# Altium integrated library Analog Devices Data Converters Digital-to-Analog Converters.IntLib: 2231 symbols (part 124 of 181)
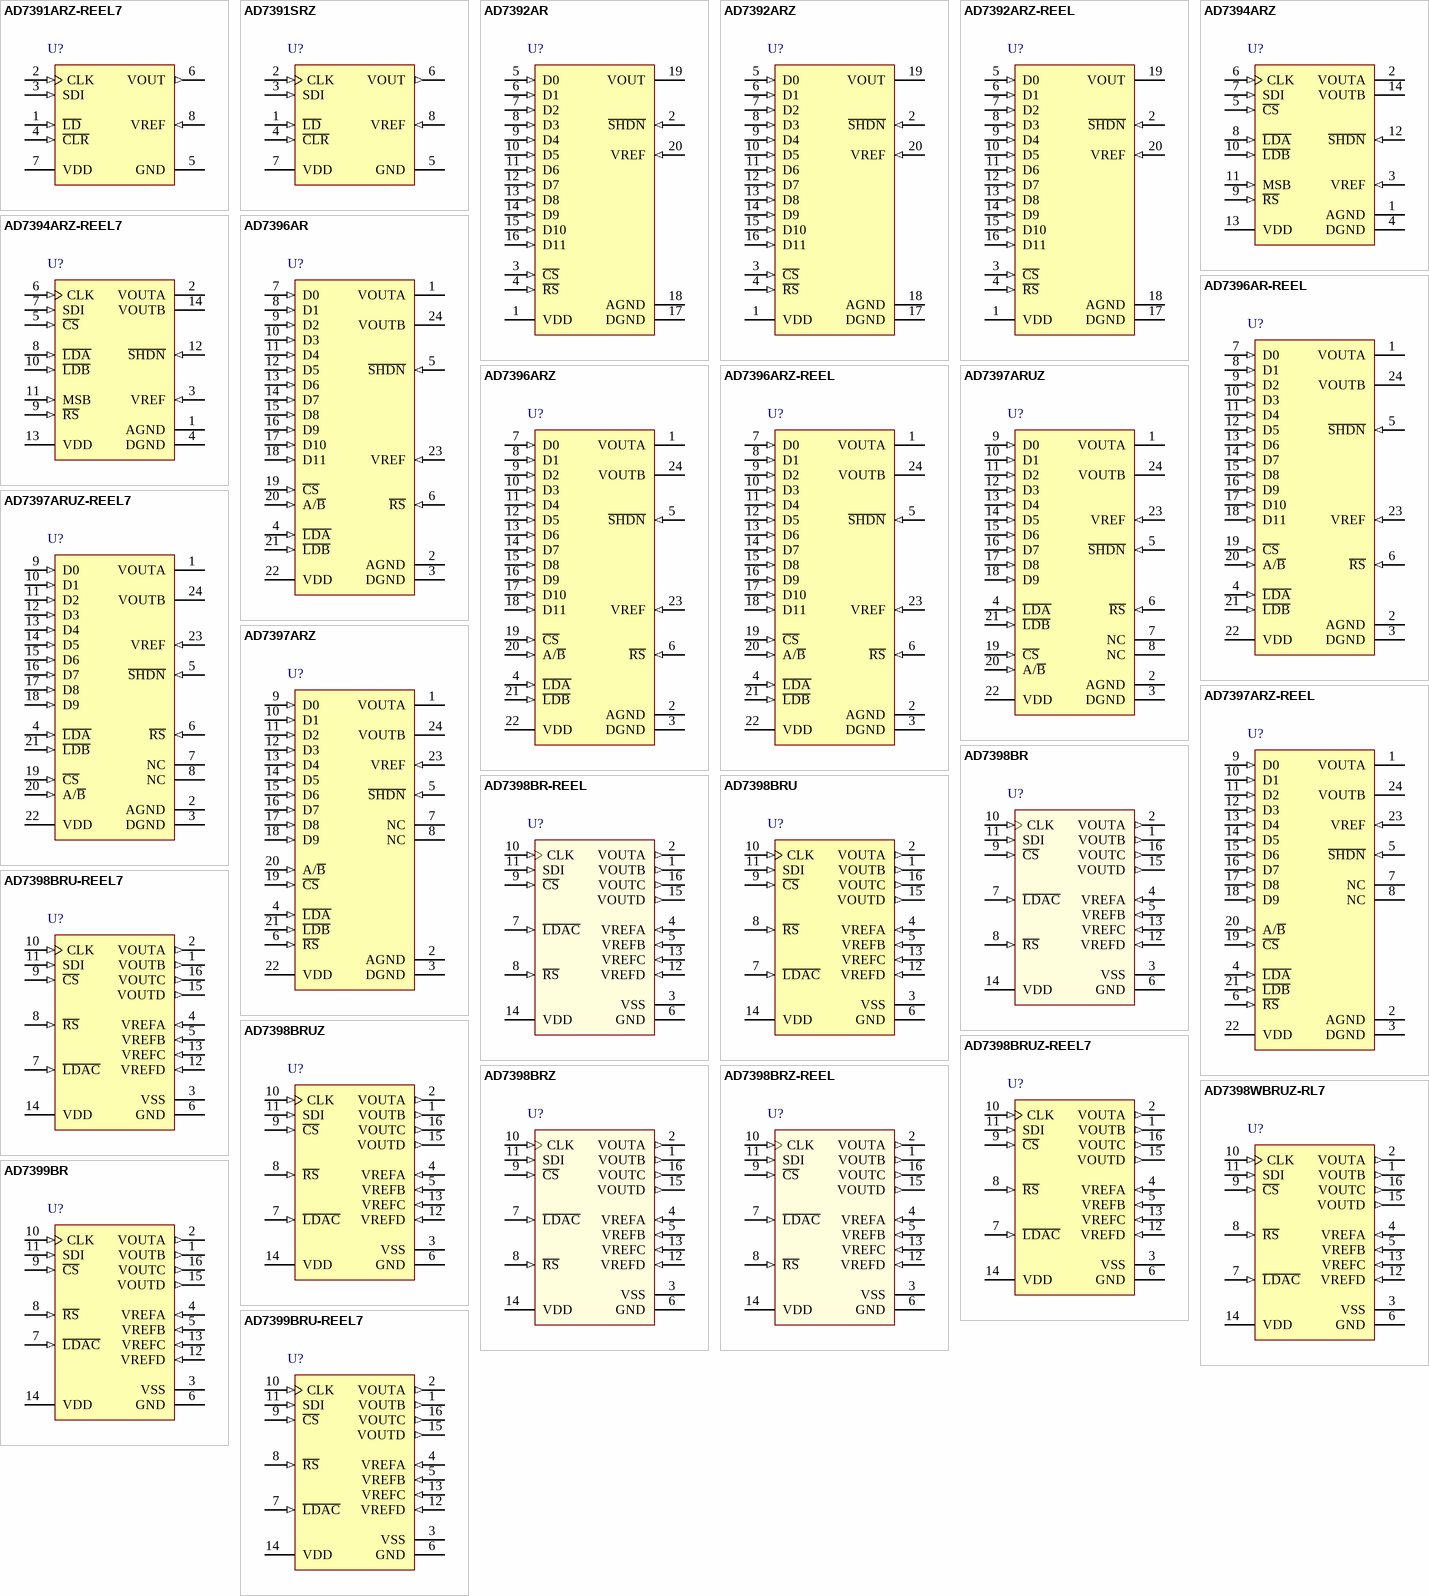
[diagram p237: symbols AD7391ARZ-REEL7 to AD7399BRU-REEL7]

## AD7399BR
designator U?
Quad 10-Bit Digital-to-Analog Converter with Serial Interface, -40 to +125 degC, RW-16, Tube; Generic Part Number: AD7399; Manufacturer: Analog Devices; PartNumber: AD7399BR; # DAC Outputs: 4; Max V+: 5.5V; Op Pwr Diss: 27mW; Resolution (Bits): 10; Settling Time: 6µs; Single Supply: Yes; DatasheetVersion: Rev.C; PackageVersion: 032707-B; PackageReference: RW-16; PackageDescription: 16-Lead Standard Small Outline Package [SOIC_W]; Supplier 1: Digi-Key; Supplier Part Number 1: AD7399BR-ND; Supplier 2: Mouser; Supplier Part Number 2: 584-AD7399BR; Packing: Tube; RoHS: N; Mounting Technology: Surface Mount; Code_JEDEC: MS-013-AA; Code_IPC: SOIC127P1030-16; ComponentLink1Description: Manufacturer URL; ComponentLink1URL: http://www.analog.com/en/index.html; ComponentLink2Description: Datasheet; ComponentLink2URL: http://www.analog.com/static/imported-files/data_sheets/AD7398_7399.pdf; ComponentLink3Description: Package Specification; ComponentLink3URL: http://www.analog.com/static/imported-files/packages/PKG_PDF/SOIC_WIDE%20%28RW%29/RW_16.pdf; ComponentLink4Description: Product URL; ComponentLink4URL: http://www.analog.com/en/digital-to-analog-converters/da-converters/ad7399/products/product.html
footprint RW-16_N (SOIC, 16-Leads, Body 10.3x7.5mm, Pitch 1.27mm, IPC Medium Density)
footprint RW-16_L (SOIC, 16-Leads, Body 10.3x7.5mm, Pitch 1.27mm, IPC High Density)
footprint RW-16_M (SOIC, 16-Leads, Body 10.3x7.5mm, Pitch 1.27mm, IPC Low Density)
pins: 1 VOUTB (out) "DAC B Voltage Output.", 2 VOUTA (out) "DAC A Voltage Output.", 3 VSS (power) "Negative Power Supply Input. Specified range of operation 0 V to -5.5 V.", 4 VREFA (in) "DAC A Reference Voltage Input Terminal. Establishes DAC A full-scale output voltage. Pin can be tied to VDD pin or VSS pin.", 5 VREFB (in) "DAC B Reference Voltage Input Terminal. Establishes DAC B full-scale output voltage. Pin can be tied to VDD pin or VSS pin.", 6 GND (power) "Ground Pin.", 7 ~{LDAC} (in) "Load DAC Register Strobe. Level sensitive active low. Transfers all input register data to DAC registers.Asynchronous active low input. See Table 5 for operation.", 8 ~{RS} (in) "Resets Input and DAC Registers to All Zero Codes. Shift register contents unchanged.", 9 ~{CS} (in) "Chip Select. Active low input. Disables shift register loading when high. Transfers serial register data to the input register when C\S\ returns high. Does not effect L\D\A\C\ operation.", 10 CLK (in) "Schmitt Triggered Clock Input. Positive edge clocks data into shift register.", 11 SDI (in) "Serial Data Input. Input data loads directly into the shift register.", 12 VREFD (in) "DAC D Reference Voltage Input Terminal. Establishes DAC D full-scale output voltage. Pin can be tied to VDD pin or VSS pin.", 13 VREFC (in) "DAC C Reference Voltage Input Terminal. Establishes DAC C full-scale output voltage. Pin can be tied to VDD pin or VSS pin.", 14 VDD (power) "Positive Power Supply Input. Specified range of operation 3 V to 5 V +/- 10%.", 15 VOUTD (out) "DAC D Voltage Output.", 16 VOUTC (out) "DAC C Voltage Output."

## AD7399BRU-REEL7
designator U?
Quad 10-Bit Digital-to-Analog Converter with Serial Interface, -40 to +125 degC, RU-16, Reel; Generic Part Number: AD7399; Manufacturer: Analog Devices; PartNumber: AD7399BRU-REEL7; # DAC Outputs: 4; Max V+: 5.5V; Op Pwr Diss: 27mW; Resolution (Bits): 10; Settling Time: 6µs; Single Supply: Yes; DatasheetVersion: Rev.C; PackageVersion: Nov-2002; PackageReference: RU-16; PackageDescription: 16-Lead Thin Shrink Small Outline Package [TSSOP]; Supplier 1: Digi-Key; Supplier Part Number 1: AD7399BRU-REEL7TR-ND; Supplier 2: Digi-Key; Supplier Part Number 2: AD7399BRU-REEL7CT-ND; Supplier 3: Digi-Key; Supplier Part Number 3: AD7399BRU-REEL7DKR-ND; Supplier 4: Mouser; Supplier Part Number 4: 584-AD7399BRU-R7; Packing: Reel; RoHS: N; Mounting Technology: Surface Mount; Code_JEDEC: MO-153-AB; ComponentLink1Description: Manufacturer URL; ComponentLink1URL: http://www.analog.com/en/index.html; ComponentLink2Description: Datasheet; ComponentLink2URL: http://www.analog.com/static/imported-files/data_sheets/AD7398_7399.pdf; ComponentLink3Description: Package Specification; ComponentLink3URL: http://www.analog.com/static/imported-files/packages/36244347913743854010197452789RU16.pdf; ComponentLink4Description: Product URL; ComponentLink4URL: http://www.analog.com/en/digital-to-analog-converters/da-converters/ad7399/products/product.html
footprint RU-16_N (TSOP, 16-Leads, Body 5x4.4mm, Pitch 0.65mm, IPC Medium Density)
footprint RU-16_L (TSOP, 16-Leads, Body 5x4.4mm, Pitch 0.65mm, IPC High Density)
footprint RU-16_M (TSOP, 16-Leads, Body 5x4.4mm, Pitch 0.65mm, IPC Low Density)
pins: 1 VOUTB (out) "DAC B Voltage Output.", 2 VOUTA (out) "DAC A Voltage Output.", 3 VSS (power) "Negative Power Supply Input. Specified range of operation 0 V to -5.5 V.", 4 VREFA (in) "DAC A Reference Voltage Input Terminal. Establishes DAC A full-scale output voltage. Pin can be tied to VDD pin or VSS pin.", 5 VREFB (in) "DAC B Reference Voltage Input Terminal. Establishes DAC B full-scale output voltage. Pin can be tied to VDD pin or VSS pin.", 6 GND (power) "Ground Pin.", 7 ~{LDAC} (in) "Load DAC Register Strobe. Level sensitive active low. Transfers all input register data to DAC registers.Asynchronous active low input. See Table 5 for operation.", 8 ~{RS} (in) "Resets Input and DAC Registers to All Zero Codes. Shift register contents unchanged.", 9 ~{CS} (in) "Chip Select. Active low input. Disables shift register loading when high. Transfers serial register data to the input register when C\S\ returns high. Does not effect L\D\A\C\ operation.", 10 CLK (in) "Schmitt Triggered Clock Input. Positive edge clocks data into shift register.", 11 SDI (in) "Serial Data Input. Input data loads directly into the shift register.", 12 VREFD (in) "DAC D Reference Voltage Input Terminal. Establishes DAC D full-scale output voltage. Pin can be tied to VDD pin or VSS pin.", 13 VREFC (in) "DAC C Reference Voltage Input Terminal. Establishes DAC C full-scale output voltage. Pin can be tied to VDD pin or VSS pin.", 14 VDD (power) "Positive Power Supply Input. Specified range of operation 3 V to 5 V +/- 10%.", 15 VOUTD (out) "DAC D Voltage Output.", 16 VOUTC (out) "DAC C Voltage Output."

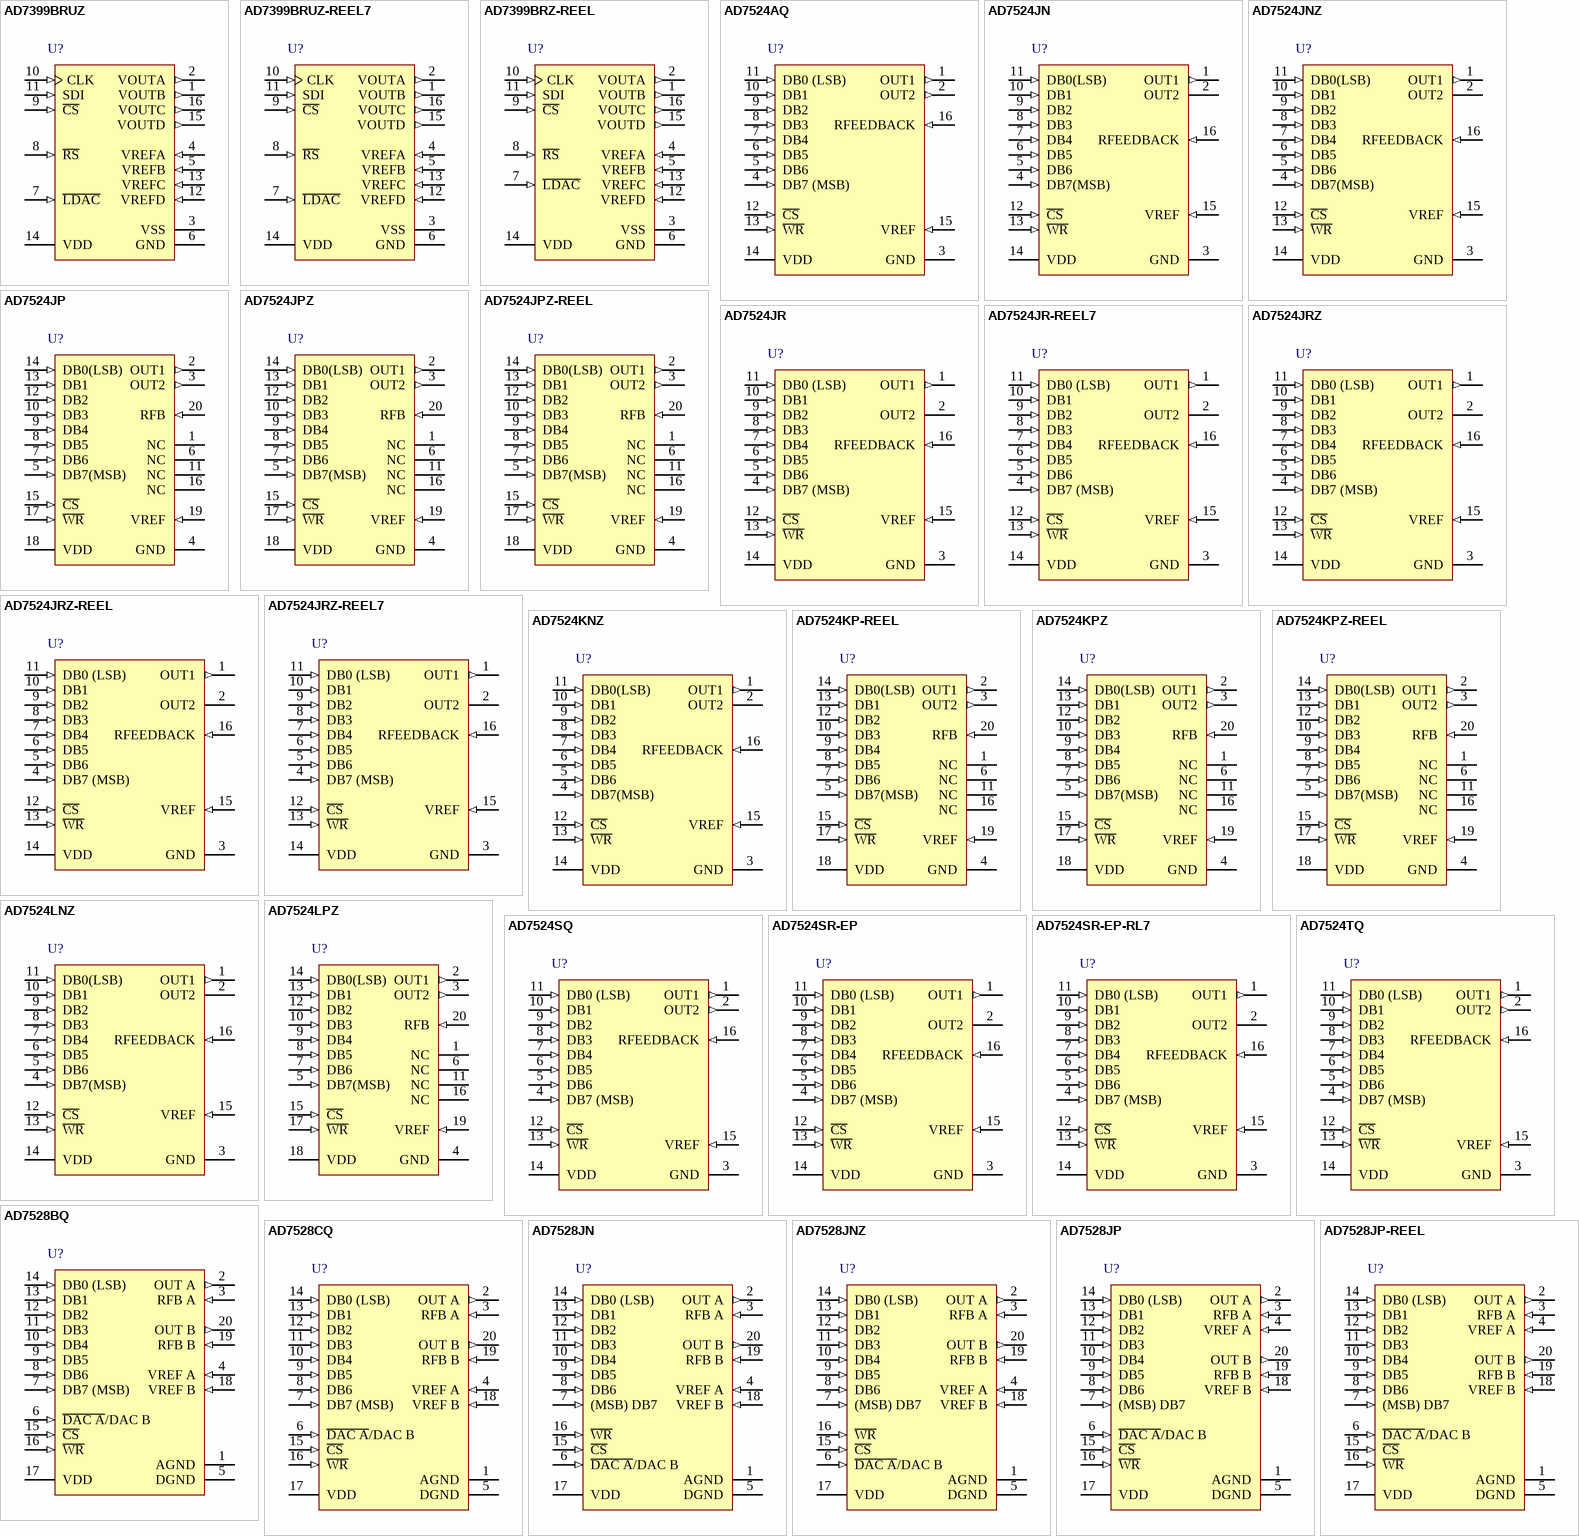
[diagram p66: symbols AD7399BRUZ to AD7528JP-REEL]

## AD7399BRUZ
designator U?
Quad 10-Bit Digital-to-Analog Converter with Serial Interface, -40 to +125 degC, RU-16, Pb-Free, Tube; Generic Part Number: AD7399; Manufacturer: Analog Devices; PartNumber: AD7399BRUZ; # DAC Outputs: 4; Max V+: 5.5V; Op Pwr Diss: 27mW; Resolution (Bits): 10; Settling Time: 6µs; Single Supply: Yes; DatasheetVersion: Rev.C; PackageVersion: Nov-2002; PackageReference: RU-16; PackageDescription: 16-Lead Thin Shrink Small Outline Package [TSSOP]; Supplier 1: Digi-Key; Supplier Part Number 1: AD7399BRUZ-ND; Supplier 2: Mouser; Supplier Part Number 2: 584-AD7399BRUZ; Packing: Tube; RoHS: Y; Mounting Technology: Surface Mount; Code_JEDEC: MO-153-AB; ComponentLink1Description: Manufacturer URL; ComponentLink1URL: http://www.analog.com/en/index.html; ComponentLink2Description: Datasheet; ComponentLink2URL: http://www.analog.com/static/imported-files/data_sheets/AD7398_7399.pdf; ComponentLink3Description: Package Specification; ComponentLink3URL: http://www.analog.com/static/imported-files/packages/36244347913743854010197452789RU16.pdf; ComponentLink4Description: Product URL; ComponentLink4URL: http://www.analog.com/en/digital-to-analog-converters/da-converters/ad7399/products/product.html
footprint RU-16_N (TSOP, 16-Leads, Body 5x4.4mm, Pitch 0.65mm, IPC Medium Density)
footprint RU-16_L (TSOP, 16-Leads, Body 5x4.4mm, Pitch 0.65mm, IPC High Density)
footprint RU-16_M (TSOP, 16-Leads, Body 5x4.4mm, Pitch 0.65mm, IPC Low Density)
pins: 1 VOUTB (out) "DAC B Voltage Output.", 2 VOUTA (out) "DAC A Voltage Output.", 3 VSS (power) "Negative Power Supply Input. Specified range of operation 0 V to -5.5 V.", 4 VREFA (in) "DAC A Reference Voltage Input Terminal. Establishes DAC A full-scale output voltage. Pin can be tied to VDD pin or VSS pin.", 5 VREFB (in) "DAC B Reference Voltage Input Terminal. Establishes DAC B full-scale output voltage. Pin can be tied to VDD pin or VSS pin.", 6 GND (power) "Ground Pin.", 7 ~{LDAC} (in) "Load DAC Register Strobe. Level sensitive active low. Transfers all input register data to DAC registers.Asynchronous active low input. See Table 5 for operation.", 8 ~{RS} (in) "Resets Input and DAC Registers to All Zero Codes. Shift register contents unchanged.", 9 ~{CS} (in) "Chip Select. Active low input. Disables shift register loading when high. Transfers serial register data to the input register when C\S\ returns high. Does not effect L\D\A\C\ operation.", 10 CLK (in) "Schmitt Triggered Clock Input. Positive edge clocks data into shift register.", 11 SDI (in) "Serial Data Input. Input data loads directly into the shift register.", 12 VREFD (in) "DAC D Reference Voltage Input Terminal. Establishes DAC D full-scale output voltage. Pin can be tied to VDD pin or VSS pin.", 13 VREFC (in) "DAC C Reference Voltage Input Terminal. Establishes DAC C full-scale output voltage. Pin can be tied to VDD pin or VSS pin.", 14 VDD (power) "Positive Power Supply Input. Specified range of operation 3 V to 5 V +/- 10%.", 15 VOUTD (out) "DAC D Voltage Output.", 16 VOUTC (out) "DAC C Voltage Output."

## AD7399BRUZ-REEL7
designator U?
Quad 10-Bit Digital-to-Analog Converter with Serial Interface, -40 to +125 degC, RU-16, Pb-Free, Reel; Generic Part Number: AD7399; Manufacturer: Analog Devices; PartNumber: AD7399BRUZ-REEL7; # DAC Outputs: 4; Max V+: 5.5V; Op Pwr Diss: 27mW; Resolution (Bits): 10; Settling Time: 6µs; Single Supply: Yes; DatasheetVersion: Rev.C; PackageVersion: Nov-2002; PackageReference: RU-16; PackageDescription: 16-Lead Thin Shrink Small Outline Package [TSSOP]; Supplier 1: Digi-Key; Supplier Part Number 1: AD7399BRUZ-REEL7-ND; Supplier 2: Mouser; Supplier Part Number 2: 584-AD7399BRUZ-R7; Packing: Reel; RoHS: Y; Mounting Technology: Surface Mount; Code_JEDEC: MO-153-AB; ComponentLink1Description: Manufacturer URL; ComponentLink1URL: http://www.analog.com/en/index.html; ComponentLink2Description: Datasheet; ComponentLink2URL: http://www.analog.com/static/imported-files/data_sheets/AD7398_7399.pdf; ComponentLink3Description: Package Specification; ComponentLink3URL: http://www.analog.com/static/imported-files/packages/36244347913743854010197452789RU16.pdf; ComponentLink4Description: Product URL; ComponentLink4URL: http://www.analog.com/en/digital-to-analog-converters/da-converters/ad7399/products/product.html
footprint RU-16_N (TSOP, 16-Leads, Body 5x4.4mm, Pitch 0.65mm, IPC Medium Density)
footprint RU-16_L (TSOP, 16-Leads, Body 5x4.4mm, Pitch 0.65mm, IPC High Density)
footprint RU-16_M (TSOP, 16-Leads, Body 5x4.4mm, Pitch 0.65mm, IPC Low Density)
pins: 1 VOUTB (out) "DAC B Voltage Output.", 2 VOUTA (out) "DAC A Voltage Output.", 3 VSS (power) "Negative Power Supply Input. Specified range of operation 0 V to -5.5 V.", 4 VREFA (in) "DAC A Reference Voltage Input Terminal. Establishes DAC A full-scale output voltage. Pin can be tied to VDD pin or VSS pin.", 5 VREFB (in) "DAC B Reference Voltage Input Terminal. Establishes DAC B full-scale output voltage. Pin can be tied to VDD pin or VSS pin.", 6 GND (power) "Ground Pin.", 7 ~{LDAC} (in) "Load DAC Register Strobe. Level sensitive active low. Transfers all input register data to DAC registers.Asynchronous active low input. See Table 5 for operation.", 8 ~{RS} (in) "Resets Input and DAC Registers to All Zero Codes. Shift register contents unchanged.", 9 ~{CS} (in) "Chip Select. Active low input. Disables shift register loading when high. Transfers serial register data to the input register when C\S\ returns high. Does not effect L\D\A\C\ operation.", 10 CLK (in) "Schmitt Triggered Clock Input. Positive edge clocks data into shift register.", 11 SDI (in) "Serial Data Input. Input data loads directly into the shift register.", 12 VREFD (in) "DAC D Reference Voltage Input Terminal. Establishes DAC D full-scale output voltage. Pin can be tied to VDD pin or VSS pin.", 13 VREFC (in) "DAC C Reference Voltage Input Terminal. Establishes DAC C full-scale output voltage. Pin can be tied to VDD pin or VSS pin.", 14 VDD (power) "Positive Power Supply Input. Specified range of operation 3 V to 5 V +/- 10%.", 15 VOUTD (out) "DAC D Voltage Output.", 16 VOUTC (out) "DAC C Voltage Output."

## AD7399BRZ-REEL
designator U?
Quad 10-Bit Digital-to-Analog Converter with Serial Interface, -40 to +125 degC, RW-16, Pb-Free, Reel; Generic Part Number: AD7399; Manufacturer: Analog Devices; PartNumber: AD7399BRZ-REEL; # DAC Outputs: 4; Max V+: 5.5V; Op Pwr Diss: 27mW; Resolution (Bits): 10; Settling Time: 6µs; Single Supply: Yes; DatasheetVersion: Rev.C; PackageVersion: 032707-B; PackageReference: RW-16; PackageDescription: 16-Lead Standard Small Outline Package [SOIC_W]; Supplier 1: Digi-Key; Supplier Part Number 1: AD7399BRZ-REEL-ND; Supplier 2: Mouser; Supplier Part Number 2: 584-AD7399BRZ-R; Packing: Reel; RoHS: Y; Mounting Technology: Surface Mount; Code_JEDEC: MS-013-AA; Code_IPC: SOIC127P1030-16; ComponentLink1Description: Manufacturer URL; ComponentLink1URL: http://www.analog.com/en/index.html; ComponentLink2Description: Datasheet; ComponentLink2URL: http://www.analog.com/static/imported-files/data_sheets/AD7398_7399.pdf; ComponentLink3Description: Package Specification; ComponentLink3URL: http://www.analog.com/static/imported-files/packages/PKG_PDF/SOIC_WIDE%20%28RW%29/RW_16.pdf; ComponentLink4Description: Product URL; ComponentLink4URL: http://www.analog.com/en/digital-to-analog-converters/da-converters/ad7399/products/product.html
footprint RW-16_N (SOIC, 16-Leads, Body 10.3x7.5mm, Pitch 1.27mm, IPC Medium Density)
footprint RW-16_L (SOIC, 16-Leads, Body 10.3x7.5mm, Pitch 1.27mm, IPC High Density)
footprint RW-16_M (SOIC, 16-Leads, Body 10.3x7.5mm, Pitch 1.27mm, IPC Low Density)
pins: 1 VOUTB (out) "DAC B Voltage Output.", 2 VOUTA (out) "DAC A Voltage Output.", 3 VSS (power) "Negative Power Supply Input. Specified range of operation 0 V to -5.5 V.", 4 VREFA (in) "DAC A Reference Voltage Input Terminal. Establishes DAC A full-scale output voltage. Pin can be tied to VDD pin or VSS pin.", 5 VREFB (in) "DAC B Reference Voltage Input Terminal. Establishes DAC B full-scale output voltage. Pin can be tied to VDD pin or VSS pin.", 6 GND (power) "Ground Pin.", 7 ~{LDAC} (in) "Load DAC Register Strobe. Level sensitive active low. Transfers all input register data to DAC registers.Asynchronous active low input. See Table 5 for operation.", 8 ~{RS} (in) "Resets Input and DAC Registers to All Zero Codes. Shift register contents unchanged.", 9 ~{CS} (in) "Chip Select. Active low input. Disables shift register loading when high. Transfers serial register data to the input register when C\S\ returns high. Does not effect L\D\A\C\ operation.", 10 CLK (in) "Schmitt Triggered Clock Input. Positive edge clocks data into shift register.", 11 SDI (in) "Serial Data Input. Input data loads directly into the shift register.", 12 VREFD (in) "DAC D Reference Voltage Input Terminal. Establishes DAC D full-scale output voltage. Pin can be tied to VDD pin or VSS pin.", 13 VREFC (in) "DAC C Reference Voltage Input Terminal. Establishes DAC C full-scale output voltage. Pin can be tied to VDD pin or VSS pin.", 14 VDD (power) "Positive Power Supply Input. Specified range of operation 3 V to 5 V +/- 10%.", 15 VOUTD (out) "DAC D Voltage Output.", 16 VOUTC (out) "DAC C Voltage Output."

## AD7524AQ
designator U?
Single 8-Bit CMOS Buffered Multiplying Digital-to-Analog Converter, -40 to +85 degC, Q-16, Tube; Generic Part Number: AD7524; Manufacturer: Analog Devices; PartNumber: AD7524AQ; # DAC Outputs: 1; Max V+: 15V; Op Pwr Diss: 30mW; Resolution (Bits): 8; Settling Time: 250ns; Single Supply: Yes; DatasheetVersion: Rev.B; PackageVersion: 1996; PackageReference: Q-16; PackageDescription: DIP, 16-Pin, Skinny Dual In-line Package, 300mil Wide, Pitch 2.54 mm; Supplier 1: Digi-Key; Supplier Part Number 1: AD7524AQ-ND; Supplier 2: Newark; Supplier Part Number 2: 05F7379; Supplier 3: Mouser; Supplier Part Number 3: 584-AD7524AQ; Packing: Tube; RoHS: N; Mounting Technology: Through Hole; ComponentLink1Description: Manufacturer URL; ComponentLink1URL: http://www.analog.com/en/index.html; ComponentLink2Description: Datasheet; ComponentLink2URL: http://www.analog.com/static/imported-files/data_sheets/AD7524.pdf; ComponentLink3Description: Package Specification; ComponentLink3URL: http://www.analog.com/static/imported-files/packages/54083157002221Q_16.pdf; ComponentLink4Description: Product URL; ComponentLink4URL: http://www.analog.com/en/digital-to-analog-converters/da-converters/ad7524/products/product.html
footprint Q-16 (DIP, 16-Leads, Row Spacing 7.62mm, Pitch 2.54mm, Body 20.07x6.73mm)
pins: 1 OUT1 (out), 2 OUT2 (out), 3 GND (power), 4 DB7 (MSB) (in), 5 DB6 (in), 6 DB5 (in), 7 DB4 (in), 8 DB3 (in), 9 DB2 (in), 10 DB1 (in), 11 DB0 (LSB) (in), 12 ~{CS} (in), 13 ~{WR} (in), 14 VDD (power), 15 VREF (in), 16 RFEEDBACK (in)

## AD7524JN
designator U?
Single 8-Bit CMOS Buffered Multiplying Digital-to-Analog Converter, 0 to +70 degC, N-16, Tube; Generic Part Number: AD7524; Manufacturer: Analog Devices; PartNumber: AD7524JN; # DAC Outputs: 1; Max V+: 15V; Op Pwr Diss: 30mW; Resolution (Bits): 8; Settling Time: 250ns; Single Supply: Yes; DatasheetVersion: Rev.B; PackageVersion: 070706-A; PackageReference: N-16; PackageDescription: 16-Lead Plastic Dual In-Line Package [PDIP] Narrow Body; Supplier 1: Digi-Key; Supplier Part Number 1: AD7524JN-ND; Supplier 2: Mouser; Supplier Part Number 2: 584-AD7524JN; Packing: Tube; RoHS: N; Mounting Technology: Through Hole; Code_JEDEC: MS-001; ComponentLink1Description: Manufacturer URL; ComponentLink1URL: http://www.analog.com/en/index.html; ComponentLink2Description: Datasheet; ComponentLink2URL: http://www.analog.com/static/imported-files/data_sheets/AD7524.pdf; ComponentLink3Description: Package Specification; ComponentLink3URL: http://www.analog.com/static/imported-files/packages/44768431550332N_16.pdf; ComponentLink4Description: Product URL; ComponentLink4URL: http://www.analog.com/en/digital-to-analog-converters/da-converters/ad7524/products/product.html
footprint N-16 (DIP, 16-Leads, Row Spacing 7.62mm, Pitch 2.54mm, Body 20.1x6.6mm)
pins: 1 OUT1 (out), 2 OUT2, 3 GND (power), 4 DB7(MSB) (in), 5 DB6 (in), 6 DB5 (in), 7 DB4 (in), 8 DB3 (in), 9 DB2 (in), 10 DB1 (in), 11 DB0(LSB) (in), 12 ~{CS} (in), 13 ~{WR} (in), 14 VDD (power), 15 VREF (in), 16 RFEEDBACK (in)

## AD7524JNZ
designator U?
Single 8-Bit CMOS Buffered Multiplying Digital-to-Analog Converter, 0 to +70 degC, N-16, Pb-Free, Tube; Generic Part Number: AD7524; Manufacturer: Analog Devices; PartNumber: AD7524JNZ; # DAC Outputs: 1; Max V+: 15V; Op Pwr Diss: 30mW; Resolution (Bits): 8; Settling Time: 250ns; Single Supply: Yes; DatasheetVersion: Rev.B; PackageVersion: 070706-A; PackageReference: N-16; PackageDescription: 16-Lead Plastic Dual In-Line Package [PDIP] Narrow Body; Supplier 1: Digi-Key; Supplier Part Number 1: AD7524JNZ-ND; Supplier 2: Farnell; Supplier Part Number 2: 9605401; Supplier 3: Newark; Supplier Part Number 3: 59K4969; Supplier 4: Mouser; Supplier Part Number 4: 584-AD7524JNZ; Packing: Tube; RoHS: Y; Mounting Technology: Through Hole; Code_JEDEC: MS-001; ComponentLink1Description: Manufacturer URL; ComponentLink1URL: http://www.analog.com/en/index.html; ComponentLink2Description: Datasheet; ComponentLink2URL: http://www.analog.com/static/imported-files/data_sheets/AD7524.pdf; ComponentLink3Description: Package Specification; ComponentLink3URL: http://www.analog.com/static/imported-files/packages/44768431550332N_16.pdf; ComponentLink4Description: Product URL; ComponentLink4URL: http://www.analog.com/en/digital-to-analog-converters/da-converters/ad7524/products/product.html
footprint N-16 (DIP, 16-Leads, Row Spacing 7.62mm, Pitch 2.54mm, Body 20.1x6.6mm)
pins: 1 OUT1 (out), 2 OUT2, 3 GND (power), 4 DB7(MSB) (in), 5 DB6 (in), 6 DB5 (in), 7 DB4 (in), 8 DB3 (in), 9 DB2 (in), 10 DB1 (in), 11 DB0(LSB) (in), 12 ~{CS} (in), 13 ~{WR} (in), 14 VDD (power), 15 VREF (in), 16 RFEEDBACK (in)

## AD7524JP
designator U?
Single 8-Bit CMOS Buffered Multiplying Digital-to-Analog Converter, 0 to +70 degC, P-20A, Tube; Generic Part Number: AD7524; Manufacturer: Analog Devices; PartNumber: AD7524JP; # DAC Outputs: 1; Max V+: 15V; Op Pwr Diss: 30mW; Resolution (Bits): 8; Settling Time: 250ns; Single Supply: Yes; DatasheetVersion: Rev.B; PackageVersion: Nov-2002; PackageReference: P-20A; PackageDescription: 20-Lead Plastic Leaded Chip Carrier [PLCC]; Supplier 1: Digi-Key; Supplier Part Number 1: AD7524JP-ND; Supplier 2: Newark; Supplier Part Number 2: 05F7382; Supplier 3: Mouser; Supplier Part Number 3: 584-AD7524JP; Packing: Tube; RoHS: N; Mounting Technology: Surface Mount; Code_JEDEC: MO-047-AA; ComponentLink1Description: Manufacturer URL; ComponentLink1URL: http://www.analog.com/en/index.html; ComponentLink2Description: Datasheet; ComponentLink2URL: http://www.analog.com/static/imported-files/data_sheets/AD7524.pdf; ComponentLink3Description: Package Specification; ComponentLink3URL: http://www.analog.com/static/imported-files/packages/3121431516544404277643669223804694P20A.pdf; ComponentLink4Description: Product URL; ComponentLink4URL: http://www.analog.com/en/digital-to-analog-converters/da-converters/ad7524/products/product.html
footprint P-20A_N (Leaded Chip Carrier, 20-Leads, Body 9x9mm, Pitch 1.27mm, IPC Medium Density)
footprint P-20A_L (Leaded Chip Carrier, 20-Leads, Body 9x9mm, Pitch 1.27mm, IPC High Density)
footprint P-20A_M (Leaded Chip Carrier, 20-Leads, Body 9x9mm, Pitch 1.27mm, IPC Low Density)
pins: 1 NC, 2 OUT1 (out), 3 OUT2 (out), 4 GND (power), 5 DB7(MSB) (in), 6 NC, 7 DB6 (in), 8 DB5 (in), 9 DB4 (in), 10 DB3 (in), 11 NC, 12 DB2 (in), 13 DB1 (in), 14 DB0(LSB) (in), 15 ~{CS} (in), 16 NC, 17 ~{WR} (in), 18 VDD (power), 19 VREF (in), 20 RFB (in)

## AD7524JPZ
designator U?
Single 8-Bit CMOS Buffered Multiplying Digital-to-Analog Converter, 0 to +70 degC, P-20A, Pb-Free, Tube; Generic Part Number: AD7524; Manufacturer: Analog Devices; PartNumber: AD7524JPZ; # DAC Outputs: 1; Max V+: 15V; Op Pwr Diss: 30mW; Resolution (Bits): 8; Settling Time: 250ns; Single Supply: Yes; DatasheetVersion: Rev.B; PackageVersion: Nov-2002; PackageReference: P-20A; PackageDescription: 20-Lead Plastic Leaded Chip Carrier [PLCC]; Packing: Tube; RoHS: Y; Mounting Technology: Surface Mount; Code_JEDEC: MO-047-AA; ComponentLink1Description: Manufacturer URL; ComponentLink1URL: http://www.analog.com/en/index.html; ComponentLink2Description: Datasheet; ComponentLink2URL: http://www.analog.com/static/imported-files/data_sheets/AD7524.pdf; ComponentLink3Description: Package Specification; ComponentLink3URL: http://www.analog.com/static/imported-files/packages/3121431516544404277643669223804694P20A.pdf; ComponentLink4Description: Product URL; ComponentLink4URL: http://www.analog.com/en/digital-to-analog-converters/da-converters/ad7524/products/product.html
footprint P-20A_N (Leaded Chip Carrier, 20-Leads, Body 9x9mm, Pitch 1.27mm, IPC Medium Density)
footprint P-20A_L (Leaded Chip Carrier, 20-Leads, Body 9x9mm, Pitch 1.27mm, IPC High Density)
footprint P-20A_M (Leaded Chip Carrier, 20-Leads, Body 9x9mm, Pitch 1.27mm, IPC Low Density)
pins: 1 NC, 2 OUT1 (out), 3 OUT2 (out), 4 GND (power), 5 DB7(MSB) (in), 6 NC, 7 DB6 (in), 8 DB5 (in), 9 DB4 (in), 10 DB3 (in), 11 NC, 12 DB2 (in), 13 DB1 (in), 14 DB0(LSB) (in), 15 ~{CS} (in), 16 NC, 17 ~{WR} (in), 18 VDD (power), 19 VREF (in), 20 RFB (in)

## AD7524JPZ-REEL
designator U?
Single 8-Bit CMOS Buffered Multiplying Digital-to-Analog Converter, 0 to +70 degC, P-20A, Pb-Free, Reel; Generic Part Number: AD7524; Manufacturer: Analog Devices; PartNumber: AD7524JPZ-REEL; # DAC Outputs: 1; Max V+: 15V; Op Pwr Diss: 30mW; Resolution (Bits): 8; Settling Time: 250ns; Single Supply: Yes; DatasheetVersion: Rev.B; PackageVersion: Nov-2002; PackageReference: P-20A; PackageDescription: 20-Lead Plastic Leaded Chip Carrier [PLCC]; Supplier 1: Mouser; Supplier Part Number 1: N/A; Packing: Reel; RoHS: Y; Mounting Technology: Surface Mount; Code_JEDEC: MO-047-AA; ComponentLink1Description: Manufacturer URL; ComponentLink1URL: http://www.analog.com/en/index.html; ComponentLink2Description: Datasheet; ComponentLink2URL: http://www.analog.com/static/imported-files/data_sheets/AD7524.pdf; ComponentLink3Description: Package Specification; ComponentLink3URL: http://www.analog.com/static/imported-files/packages/3121431516544404277643669223804694P20A.pdf; ComponentLink4Description: Product URL; ComponentLink4URL: http://www.analog.com/en/digital-to-analog-converters/da-converters/ad7524/products/product.html
footprint P-20A_N (Leaded Chip Carrier, 20-Leads, Body 9x9mm, Pitch 1.27mm, IPC Medium Density)
footprint P-20A_L (Leaded Chip Carrier, 20-Leads, Body 9x9mm, Pitch 1.27mm, IPC High Density)
footprint P-20A_M (Leaded Chip Carrier, 20-Leads, Body 9x9mm, Pitch 1.27mm, IPC Low Density)
pins: 1 NC, 2 OUT1 (out), 3 OUT2 (out), 4 GND (power), 5 DB7(MSB) (in), 6 NC, 7 DB6 (in), 8 DB5 (in), 9 DB4 (in), 10 DB3 (in), 11 NC, 12 DB2 (in), 13 DB1 (in), 14 DB0(LSB) (in), 15 ~{CS} (in), 16 NC, 17 ~{WR} (in), 18 VDD (power), 19 VREF (in), 20 RFB (in)

## AD7524JR
designator U?
Single 8-Bit CMOS Buffered Multiplying Digital-to-Analog Converter, 0 to +70 degC, R-16, Tube; Generic Part Number: AD7524; Manufacturer: Analog Devices; PartNumber: AD7524JR; # DAC Outputs: 1; Max V+: 15V; Op Pwr Diss: 30mW; Resolution (Bits): 8; Settling Time: 250ns; Single Supply: Yes; DatasheetVersion: Rev.B; PackageVersion: 060606-A; PackageReference: R-16; PackageDescription: 16-Lead Standard Small Outline Package [SOIC_N] Narrow Body; Supplier 1: Digi-Key; Supplier Part Number 1: AD7524JR-ND; Supplier 2: Mouser; Supplier Part Number 2: 584-AD7524JR; Packing: Tube; RoHS: N; Mounting Technology: Surface Mount; Code_JEDEC: MS-012-AC; ComponentLink1Description: Manufacturer URL; ComponentLink1URL: http://www.analog.com/en/index.html; ComponentLink2Description: Datasheet; ComponentLink2URL: http://www.analog.com/static/imported-files/data_sheets/AD7524.pdf; ComponentLink3Description: Package Specification; ComponentLink3URL: http://www.analog.com/static/imported-files/packages/PKG_PDF/SOIC_Narrow%20(R)/R_16.pdf; ComponentLink4Description: Product URL; ComponentLink4URL: http://www.analog.com/en/digital-to-analog-converters/da-converters/ad7524/products/product.html
footprint R-16_N (SOIC, 16-Leads, Body 9.9x3.9mm, Pitch 1.27mm, IPC Medium Density)
footprint R-16_L (SOIC, 16-Leads, Body 9.9x3.9mm, Pitch 1.27mm, IPC High Density)
footprint R-16_M (SOIC, 16-Leads, Body 9.9x3.9mm, Pitch 1.27mm, IPC Low Density)
pins: 1 OUT1 (out), 2 OUT2, 3 GND (power), 4 DB7 (MSB) (in), 5 DB6 (in), 6 DB5 (in), 7 DB4 (in), 8 DB3 (in), 9 DB2 (in), 10 DB1 (in), 11 DB0 (LSB) (in), 12 ~{CS} (in), 13 ~{WR} (in), 14 VDD (power), 15 VREF (in), 16 RFEEDBACK (in)

## AD7524JR-REEL7
designator U?
Single 8-Bit CMOS Buffered Multiplying Digital-to-Analog Converter, 0 to +70 degC, R-16, Reel; Generic Part Number: AD7524; Manufacturer: Analog Devices; PartNumber: AD7524JR-REEL7; # DAC Outputs: 1; Max V+: 15V; Op Pwr Diss: 30mW; Resolution (Bits): 8; Settling Time: 250ns; Single Supply: Yes; DatasheetVersion: Rev.B; PackageVersion: 060606-A; PackageReference: R-16; PackageDescription: 16-Lead Standard Small Outline Package [SOIC_N] Narrow Body; Supplier 1: Digi-Key; Supplier Part Number 1: AD7524JR-REEL7-ND; Supplier 2: Newark; Supplier Part Number 2: 09B5762; Supplier 3: Mouser; Supplier Part Number 3: 584-AD7524JR-R7; Packing: Reel; RoHS: N; Mounting Technology: Surface Mount; Code_JEDEC: MS-012-AC; ComponentLink1Description: Manufacturer URL; ComponentLink1URL: http://www.analog.com/en/index.html; ComponentLink2Description: Datasheet; ComponentLink2URL: http://www.analog.com/static/imported-files/data_sheets/AD7524.pdf; ComponentLink3Description: Package Specification; ComponentLink3URL: http://www.analog.com/static/imported-files/packages/PKG_PDF/SOIC_Narrow%20(R)/R_16.pdf; ComponentLink4Description: Product URL; ComponentLink4URL: http://www.analog.com/en/digital-to-analog-converters/da-converters/ad7524/products/product.html
footprint R-16_N (SOIC, 16-Leads, Body 9.9x3.9mm, Pitch 1.27mm, IPC Medium Density)
footprint R-16_L (SOIC, 16-Leads, Body 9.9x3.9mm, Pitch 1.27mm, IPC High Density)
footprint R-16_M (SOIC, 16-Leads, Body 9.9x3.9mm, Pitch 1.27mm, IPC Low Density)
pins: 1 OUT1 (out), 2 OUT2, 3 GND (power), 4 DB7 (MSB) (in), 5 DB6 (in), 6 DB5 (in), 7 DB4 (in), 8 DB3 (in), 9 DB2 (in), 10 DB1 (in), 11 DB0 (LSB) (in), 12 ~{CS} (in), 13 ~{WR} (in), 14 VDD (power), 15 VREF (in), 16 RFEEDBACK (in)

## AD7524JRZ
designator U?
Single 8-Bit CMOS Buffered Multiplying Digital-to-Analog Converter, 0 to +70 degC, R-16, Pb-Free, Tube; Generic Part Number: AD7524; Manufacturer: Analog Devices; PartNumber: AD7524JRZ; # DAC Outputs: 1; Max V+: 15V; Op Pwr Diss: 30mW; Resolution (Bits): 8; Settling Time: 250ns; Single Supply: Yes; DatasheetVersion: Rev.B; PackageVersion: 060606-A; PackageReference: R-16; PackageDescription: 16-Lead Standard Small Outline Package [SOIC_N] Narrow Body; Supplier 1: Digi-Key; Supplier Part Number 1: AD7524JRZ-ND; Supplier 2: Farnell; Supplier Part Number 2: 2305683; Supplier 3: Newark; Supplier Part Number 3: 84W7428; Supplier 4: Newark; Supplier Part Number 4: 59K4970; Supplier 5: Mouser; Supplier Part Number 5: 584-AD7524JRZ; Packing: Tube; RoHS: Y; Mounting Technology: Surface Mount; Code_JEDEC: MS-012-AC; ComponentLink1Description: Manufacturer URL; ComponentLink1URL: http://www.analog.com/en/index.html; ComponentLink2Description: Datasheet; ComponentLink2URL: http://www.analog.com/static/imported-files/data_sheets/AD7524.pdf; ComponentLink3Description: Package Specification; ComponentLink3URL: http://www.analog.com/static/imported-files/packages/PKG_PDF/SOIC_Narrow%20(R)/R_16.pdf; ComponentLink4Description: Product URL; ComponentLink4URL: http://www.analog.com/en/digital-to-analog-converters/da-converters/ad7524/products/product.html
footprint R-16_N (SOIC, 16-Leads, Body 9.9x3.9mm, Pitch 1.27mm, IPC Medium Density)
footprint R-16_L (SOIC, 16-Leads, Body 9.9x3.9mm, Pitch 1.27mm, IPC High Density)
footprint R-16_M (SOIC, 16-Leads, Body 9.9x3.9mm, Pitch 1.27mm, IPC Low Density)
pins: 1 OUT1 (out), 2 OUT2, 3 GND (power), 4 DB7 (MSB) (in), 5 DB6 (in), 6 DB5 (in), 7 DB4 (in), 8 DB3 (in), 9 DB2 (in), 10 DB1 (in), 11 DB0 (LSB) (in), 12 ~{CS} (in), 13 ~{WR} (in), 14 VDD (power), 15 VREF (in), 16 RFEEDBACK (in)

## AD7524JRZ-REEL
designator U?
Single 8-Bit CMOS Buffered Multiplying Digital-to-Analog Converter, 0 to +70 degC, R-16, Pb-Free, Reel; Generic Part Number: AD7524; Manufacturer: Analog Devices; PartNumber: AD7524JRZ-REEL; # DAC Outputs: 1; Max V+: 15V; Op Pwr Diss: 30mW; Resolution (Bits): 8; Settling Time: 250ns; Single Supply: Yes; DatasheetVersion: Rev.B; PackageVersion: 060606-A; PackageReference: R-16; PackageDescription: 16-Lead Standard Small Outline Package [SOIC_N] Narrow Body; Supplier 1: Digi-Key; Supplier Part Number 1: AD7524JRZ-REEL-ND; Supplier 2: Newark; Supplier Part Number 2: 59K4971; Supplier 3: Mouser; Supplier Part Number 3: 584-AD7524JRZ-R; Packing: Reel; RoHS: Y; Mounting Technology: Surface Mount; Code_JEDEC: MS-012-AC; ComponentLink1Description: Manufacturer URL; ComponentLink1URL: http://www.analog.com/en/index.html; ComponentLink2Description: Datasheet; ComponentLink2URL: http://www.analog.com/static/imported-files/data_sheets/AD7524.pdf; ComponentLink3Description: Package Specification; ComponentLink3URL: http://www.analog.com/static/imported-files/packages/PKG_PDF/SOIC_Narrow%20(R)/R_16.pdf; ComponentLink4Description: Product URL; ComponentLink4URL: http://www.analog.com/en/digital-to-analog-converters/da-converters/ad7524/products/product.html
footprint R-16_N (SOIC, 16-Leads, Body 9.9x3.9mm, Pitch 1.27mm, IPC Medium Density)
footprint R-16_L (SOIC, 16-Leads, Body 9.9x3.9mm, Pitch 1.27mm, IPC High Density)
footprint R-16_M (SOIC, 16-Leads, Body 9.9x3.9mm, Pitch 1.27mm, IPC Low Density)
pins: 1 OUT1 (out), 2 OUT2, 3 GND (power), 4 DB7 (MSB) (in), 5 DB6 (in), 6 DB5 (in), 7 DB4 (in), 8 DB3 (in), 9 DB2 (in), 10 DB1 (in), 11 DB0 (LSB) (in), 12 ~{CS} (in), 13 ~{WR} (in), 14 VDD (power), 15 VREF (in), 16 RFEEDBACK (in)

## AD7524JRZ-REEL7
designator U?
Single 8-Bit CMOS Buffered Multiplying Digital-to-Analog Converter, 0 to +70 degC, R-16, Pb-Free, Reel; Generic Part Number: AD7524; Manufacturer: Analog Devices; PartNumber: AD7524JRZ-REEL7; # DAC Outputs: 1; Max V+: 15V; Op Pwr Diss: 30mW; Resolution (Bits): 8; Settling Time: 250ns; Single Supply: Yes; DatasheetVersion: Rev.B; PackageVersion: 060606-A; PackageReference: R-16; PackageDescription: 16-Lead Standard Small Outline Package [SOIC_N] Narrow Body; Supplier 1: Digi-Key; Supplier Part Number 1: AD7524JRZ-REEL7TR-ND; Supplier 2: Digi-Key; Supplier Part Number 2: AD7524JRZ-REEL7CT-ND; Supplier 3: Digi-Key; Supplier Part Number 3: AD7524JRZ-REEL7DKR-ND; Supplier 4: Newark; Supplier Part Number 4: 59K4972; Supplier 5: Mouser; Supplier Part Number 5: 584-AD7524JRZ-R7; Packing: Reel; RoHS: Y; Mounting Technology: Surface Mount; Code_JEDEC: MS-012-AC; ComponentLink1Description: Manufacturer URL; ComponentLink1URL: http://www.analog.com/en/index.html; ComponentLink2Description: Datasheet; ComponentLink2URL: http://www.analog.com/static/imported-files/data_sheets/AD7524.pdf; ComponentLink3Description: Package Specification; ComponentLink3URL: http://www.analog.com/static/imported-files/packages/PKG_PDF/SOIC_Narrow%20(R)/R_16.pdf; ComponentLink4Description: Product URL; ComponentLink4URL: http://www.analog.com/en/digital-to-analog-converters/da-converters/ad7524/products/product.html
footprint R-16_N (SOIC, 16-Leads, Body 9.9x3.9mm, Pitch 1.27mm, IPC Medium Density)
footprint R-16_L (SOIC, 16-Leads, Body 9.9x3.9mm, Pitch 1.27mm, IPC High Density)
footprint R-16_M (SOIC, 16-Leads, Body 9.9x3.9mm, Pitch 1.27mm, IPC Low Density)
pins: 1 OUT1 (out), 2 OUT2, 3 GND (power), 4 DB7 (MSB) (in), 5 DB6 (in), 6 DB5 (in), 7 DB4 (in), 8 DB3 (in), 9 DB2 (in), 10 DB1 (in), 11 DB0 (LSB) (in), 12 ~{CS} (in), 13 ~{WR} (in), 14 VDD (power), 15 VREF (in), 16 RFEEDBACK (in)

## AD7524KNZ
designator U?
Single 8-Bit CMOS Buffered Multiplying Digital-to-Analog Converter, 0 to +70 degC, N-16, Pb-Free, Tube; Generic Part Number: AD7524; Manufacturer: Analog Devices; PartNumber: AD7524KNZ; # DAC Outputs: 1; Max V+: 15V; Op Pwr Diss: 30mW; Resolution (Bits): 8; Settling Time: 250ns; Single Supply: Yes; DatasheetVersion: Rev.B; PackageVersion: 070706-A; PackageReference: N-16; PackageDescription: 16-Lead Plastic Dual In-Line Package [PDIP] Narrow Body; Supplier 1: Digi-Key; Supplier Part Number 1: AD7524KNZ-ND; Supplier 2: Newark; Supplier Part Number 2: 59K4973; Supplier 3: Mouser; Supplier Part Number 3: 584-AD7524KNZ; Packing: Tube; RoHS: Y; Mounting Technology: Through Hole; Code_JEDEC: MS-001; ComponentLink1Description: Manufacturer URL; ComponentLink1URL: http://www.analog.com/en/index.html; ComponentLink2Description: Datasheet; ComponentLink2URL: http://www.analog.com/static/imported-files/data_sheets/AD7524.pdf; ComponentLink3Description: Package Specification; ComponentLink3URL: http://www.analog.com/static/imported-files/packages/44768431550332N_16.pdf; ComponentLink4Description: Product URL; ComponentLink4URL: http://www.analog.com/en/digital-to-analog-converters/da-converters/ad7524/products/product.html
footprint N-16 (DIP, 16-Leads, Row Spacing 7.62mm, Pitch 2.54mm, Body 20.1x6.6mm)
pins: 1 OUT1 (out), 2 OUT2, 3 GND (power), 4 DB7(MSB) (in), 5 DB6 (in), 6 DB5 (in), 7 DB4 (in), 8 DB3 (in), 9 DB2 (in), 10 DB1 (in), 11 DB0(LSB) (in), 12 ~{CS} (in), 13 ~{WR} (in), 14 VDD (power), 15 VREF (in), 16 RFEEDBACK (in)

## AD7524KP-REEL
designator U?
Single 8-Bit CMOS Buffered Multiplying Digital-to-Analog Converter, 0 to +70 degC, P-20A, Reel; Generic Part Number: AD7524; Manufacturer: Analog Devices; PartNumber: AD7524KP-REEL; # DAC Outputs: 1; Max V+: 15V; Op Pwr Diss: 30mW; Resolution (Bits): 8; Settling Time: 250ns; Single Supply: Yes; DatasheetVersion: Rev.B; PackageVersion: Nov-2002; PackageReference: P-20A; PackageDescription: 20-Lead Plastic Leaded Chip Carrier [PLCC]; Supplier 1: Mouser; Supplier Part Number 1: N/A; Packing: Reel; RoHS: N; Mounting Technology: Surface Mount; Code_JEDEC: MO-047-AA; ComponentLink1Description: Manufacturer URL; ComponentLink1URL: http://www.analog.com/en/index.html; ComponentLink2Description: Datasheet; ComponentLink2URL: http://www.analog.com/static/imported-files/data_sheets/AD7524.pdf; ComponentLink3Description: Package Specification; ComponentLink3URL: http://www.analog.com/static/imported-files/packages/3121431516544404277643669223804694P20A.pdf; ComponentLink4Description: Product URL; ComponentLink4URL: http://www.analog.com/en/digital-to-analog-converters/da-converters/ad7524/products/product.html
footprint P-20A_N (Leaded Chip Carrier, 20-Leads, Body 9x9mm, Pitch 1.27mm, IPC Medium Density)
footprint P-20A_L (Leaded Chip Carrier, 20-Leads, Body 9x9mm, Pitch 1.27mm, IPC High Density)
footprint P-20A_M (Leaded Chip Carrier, 20-Leads, Body 9x9mm, Pitch 1.27mm, IPC Low Density)
pins: 1 NC, 2 OUT1 (out), 3 OUT2 (out), 4 GND (power), 5 DB7(MSB) (in), 6 NC, 7 DB6 (in), 8 DB5 (in), 9 DB4 (in), 10 DB3 (in), 11 NC, 12 DB2 (in), 13 DB1 (in), 14 DB0(LSB) (in), 15 ~{CS} (in), 16 NC, 17 ~{WR} (in), 18 VDD (power), 19 VREF (in), 20 RFB (in)

## AD7524KPZ
designator U?
Single 8-Bit CMOS Buffered Multiplying Digital-to-Analog Converter, 0 to +70 degC, P-20A, Pb-Free, Tube; Generic Part Number: AD7524; Manufacturer: Analog Devices; PartNumber: AD7524KPZ; # DAC Outputs: 1; Max V+: 15V; Op Pwr Diss: 30mW; Resolution (Bits): 8; Settling Time: 250ns; Single Supply: Yes; DatasheetVersion: Rev.B; PackageVersion: Nov-2002; PackageReference: P-20A; PackageDescription: 20-Lead Plastic Leaded Chip Carrier [PLCC]; Supplier 1: Mouser; Supplier Part Number 1: N/A; Packing: Tube; RoHS: Y; Mounting Technology: Surface Mount; Code_JEDEC: MO-047-AA; ComponentLink1Description: Manufacturer URL; ComponentLink1URL: http://www.analog.com/en/index.html; ComponentLink2Description: Datasheet; ComponentLink2URL: http://www.analog.com/static/imported-files/data_sheets/AD7524.pdf; ComponentLink3Description: Package Specification; ComponentLink3URL: http://www.analog.com/static/imported-files/packages/3121431516544404277643669223804694P20A.pdf; ComponentLink4Description: Product URL; ComponentLink4URL: http://www.analog.com/en/digital-to-analog-converters/da-converters/ad7524/products/product.html
footprint P-20A_N (Leaded Chip Carrier, 20-Leads, Body 9x9mm, Pitch 1.27mm, IPC Medium Density)
footprint P-20A_L (Leaded Chip Carrier, 20-Leads, Body 9x9mm, Pitch 1.27mm, IPC High Density)
footprint P-20A_M (Leaded Chip Carrier, 20-Leads, Body 9x9mm, Pitch 1.27mm, IPC Low Density)
pins: 1 NC, 2 OUT1 (out), 3 OUT2 (out), 4 GND (power), 5 DB7(MSB) (in), 6 NC, 7 DB6 (in), 8 DB5 (in), 9 DB4 (in), 10 DB3 (in), 11 NC, 12 DB2 (in), 13 DB1 (in), 14 DB0(LSB) (in), 15 ~{CS} (in), 16 NC, 17 ~{WR} (in), 18 VDD (power), 19 VREF (in), 20 RFB (in)

## AD7524KPZ-REEL
designator U?
Single 8-Bit CMOS Buffered Multiplying Digital-to-Analog Converter, 0 to +70 degC, P-20A, Pb-Free, Reel; Generic Part Number: AD7524; Manufacturer: Analog Devices; PartNumber: AD7524KPZ-REEL; # DAC Outputs: 1; Max V+: 15V; Op Pwr Diss: 30mW; Resolution (Bits): 8; Settling Time: 250ns; Single Supply: Yes; DatasheetVersion: Rev.B; PackageVersion: Nov-2002; PackageReference: P-20A; PackageDescription: 20-Lead Plastic Leaded Chip Carrier [PLCC]; Supplier 1: Mouser; Supplier Part Number 1: N/A; Packing: Reel; RoHS: Y; Mounting Technology: Surface Mount; Code_JEDEC: MO-047-AA; ComponentLink1Description: Manufacturer URL; ComponentLink1URL: http://www.analog.com/en/index.html; ComponentLink2Description: Datasheet; ComponentLink2URL: http://www.analog.com/static/imported-files/data_sheets/AD7524.pdf; ComponentLink3Description: Package Specification; ComponentLink3URL: http://www.analog.com/static/imported-files/packages/3121431516544404277643669223804694P20A.pdf; ComponentLink4Description: Product URL; ComponentLink4URL: http://www.analog.com/en/digital-to-analog-converters/da-converters/ad7524/products/product.html
footprint P-20A_N (Leaded Chip Carrier, 20-Leads, Body 9x9mm, Pitch 1.27mm, IPC Medium Density)
footprint P-20A_L (Leaded Chip Carrier, 20-Leads, Body 9x9mm, Pitch 1.27mm, IPC High Density)
footprint P-20A_M (Leaded Chip Carrier, 20-Leads, Body 9x9mm, Pitch 1.27mm, IPC Low Density)
pins: 1 NC, 2 OUT1 (out), 3 OUT2 (out), 4 GND (power), 5 DB7(MSB) (in), 6 NC, 7 DB6 (in), 8 DB5 (in), 9 DB4 (in), 10 DB3 (in), 11 NC, 12 DB2 (in), 13 DB1 (in), 14 DB0(LSB) (in), 15 ~{CS} (in), 16 NC, 17 ~{WR} (in), 18 VDD (power), 19 VREF (in), 20 RFB (in)

## AD7524LNZ
designator U?
Single 8-Bit CMOS Buffered Multiplying Digital-to-Analog Converter, 0 to +70 degC, N-16, Pb-Free, Tube; Generic Part Number: AD7524; Manufacturer: Analog Devices; PartNumber: AD7524LNZ; # DAC Outputs: 1; Max V+: 15V; Op Pwr Diss: 30mW; Resolution (Bits): 8; Settling Time: 250ns; Single Supply: Yes; DatasheetVersion: Rev.B; PackageVersion: 070706-A; PackageReference: N-16; PackageDescription: 16-Lead Plastic Dual In-Line Package [PDIP] Narrow Body; Supplier 1: Digi-Key; Supplier Part Number 1: AD7524LNZ-ND; Supplier 2: Newark; Supplier Part Number 2: 59K4974; Supplier 3: Mouser; Supplier Part Number 3: 584-AD7524LNZ; Packing: Tube; RoHS: Y; Mounting Technology: Through Hole; Code_JEDEC: MS-001; ComponentLink1Description: Manufacturer URL; ComponentLink1URL: http://www.analog.com/en/index.html; ComponentLink2Description: Datasheet; ComponentLink2URL: http://www.analog.com/static/imported-files/data_sheets/AD7524.pdf; ComponentLink3Description: Package Specification; ComponentLink3URL: http://www.analog.com/static/imported-files/packages/44768431550332N_16.pdf; ComponentLink4Description: Product URL; ComponentLink4URL: http://www.analog.com/en/digital-to-analog-converters/da-converters/ad7524/products/product.html
footprint N-16 (DIP, 16-Leads, Row Spacing 7.62mm, Pitch 2.54mm, Body 20.1x6.6mm)
pins: 1 OUT1 (out), 2 OUT2, 3 GND (power), 4 DB7(MSB) (in), 5 DB6 (in), 6 DB5 (in), 7 DB4 (in), 8 DB3 (in), 9 DB2 (in), 10 DB1 (in), 11 DB0(LSB) (in), 12 ~{CS} (in), 13 ~{WR} (in), 14 VDD (power), 15 VREF (in), 16 RFEEDBACK (in)

## AD7524LPZ
designator U?
Single 8-Bit CMOS Buffered Multiplying Digital-to-Analog Converter, 0 to +70 degC, P-20A, Pb-Free, Tube; Generic Part Number: AD7524; Manufacturer: Analog Devices; PartNumber: AD7524LPZ; # DAC Outputs: 1; Max V+: 15V; Op Pwr Diss: 30mW; Resolution (Bits): 8; Settling Time: 250ns; Single Supply: Yes; DatasheetVersion: Rev.B; PackageVersion: Nov-2002; PackageReference: P-20A; PackageDescription: 20-Lead Plastic Leaded Chip Carrier [PLCC]; Supplier 1: Mouser; Supplier Part Number 1: N/A; Packing: Tube; RoHS: Y; Mounting Technology: Surface Mount; Code_JEDEC: MO-047-AA; ComponentLink1Description: Manufacturer URL; ComponentLink1URL: http://www.analog.com/en/index.html; ComponentLink2Description: Datasheet; ComponentLink2URL: http://www.analog.com/static/imported-files/data_sheets/AD7524.pdf; ComponentLink3Description: Package Specification; ComponentLink3URL: http://www.analog.com/static/imported-files/packages/3121431516544404277643669223804694P20A.pdf; ComponentLink4Description: Product URL; ComponentLink4URL: http://www.analog.com/en/digital-to-analog-converters/da-converters/ad7524/products/product.html
footprint P-20A_N (Leaded Chip Carrier, 20-Leads, Body 9x9mm, Pitch 1.27mm, IPC Medium Density)
footprint P-20A_L (Leaded Chip Carrier, 20-Leads, Body 9x9mm, Pitch 1.27mm, IPC High Density)
footprint P-20A_M (Leaded Chip Carrier, 20-Leads, Body 9x9mm, Pitch 1.27mm, IPC Low Density)
pins: 1 NC, 2 OUT1 (out), 3 OUT2 (out), 4 GND (power), 5 DB7(MSB) (in), 6 NC, 7 DB6 (in), 8 DB5 (in), 9 DB4 (in), 10 DB3 (in), 11 NC, 12 DB2 (in), 13 DB1 (in), 14 DB0(LSB) (in), 15 ~{CS} (in), 16 NC, 17 ~{WR} (in), 18 VDD (power), 19 VREF (in), 20 RFB (in)

## AD7524SQ
designator U?
Single 8-Bit Buffered Multiplying CMOS Digital-to-Analog Converter, -55 to +125 degC, Q-16, Tube; Generic Part Number: AD7524; Manufacturer: Analog Devices; PartNumber: AD7524SQ; # DAC Outputs: 1; Max V+: 15V; Op Pwr Diss: 30mW; Resolution (Bits): 8; Settling Time: 250ns; Single Supply: Yes; DatasheetVersion: Rev.B; PackageVersion: 1996; PackageReference: Q-16; PackageDescription: DIP, 16-Pin, Skinny Dual In-line Package, 300mil Wide, Pitch 2.54 mm; Supplier 1: Digi-Key; Supplier Part Number 1: AD7524SQ-ND; Supplier 2: Newark; Supplier Part Number 2: 16F3370; Supplier 3: Mouser; Supplier Part Number 3: 584-AD7524SQ; Packing: Tube; RoHS: N; Mounting Technology: Through Hole; ComponentLink1Description: Manufacturer URL; ComponentLink1URL: http://www.analog.com/en/index.html; ComponentLink2Description: Datasheet; ComponentLink2URL: http://www.analog.com/static/imported-files/data_sheets/AD7524.pdf; ComponentLink3Description: Package Specification; ComponentLink3URL: http://www.analog.com/static/imported-files/packages/54083157002221Q_16.pdf; ComponentLink4Description: Product URL; ComponentLink4URL: http://www.analog.com/en/digital-to-analog-converters/da-converters/ad7524/products/product.html
footprint Q-16 (DIP, 16-Leads, Row Spacing 7.62mm, Pitch 2.54mm, Body 20.07x6.73mm)
pins: 1 OUT1 (out), 2 OUT2 (out), 3 GND (power), 4 DB7 (MSB) (in), 5 DB6 (in), 6 DB5 (in), 7 DB4 (in), 8 DB3 (in), 9 DB2 (in), 10 DB1 (in), 11 DB0 (LSB) (in), 12 ~{CS} (in), 13 ~{WR} (in), 14 VDD (power), 15 VREF (in), 16 RFEEDBACK (in)

## AD7524SR-EP
designator U?
Single 8-Bit Buffered Multiplying CMOS Digital-to-Analog Converter, -40 to +85 degC, R-16, Tube; Generic Part Number: AD7524; Manufacturer: Analog Devices; PartNumber: AD7524SR-EP; # DAC Outputs: 1; Max V+: 15V; Op Pwr Diss: 30mW; Resolution (Bits): 8; Settling Time: 250ns; Single Supply: Yes; DatasheetVersion: Rev.0; PackageVersion: 060606-A; PackageReference: R-16; PackageDescription: 16-Lead Standard Small Outline Package [SOIC_N] Narrow Body; Supplier 1: Digi-Key; Supplier Part Number 1: AD7524SR-EP-ND; Supplier 2: Mouser; Supplier Part Number 2: 584-AD7524SR-EP; Packing: Tube; RoHS: N; Mounting Technology: Surface Mount; Code_JEDEC: MS-012-AC; ComponentLink1Description: Manufacturer URL; ComponentLink1URL: http://www.analog.com/en/index.html; ComponentLink2Description: Datasheet; ComponentLink2URL: http://www.analog.com/static/imported-files/data_sheets/AD7524-EP.pdf; ComponentLink3Description: Package Specification; ComponentLink3URL: http://www.analog.com/static/imported-files/packages/PKG_PDF/SOIC_Narrow%20(R)/R_16.pdf; ComponentLink4Description: Product URL; ComponentLink4URL: http://www.analog.com/en/digital-to-analog-converters/da-converters/ad7524/products/product.html
footprint R-16_N (SOIC, 16-Leads, Body 9.9x3.9mm, Pitch 1.27mm, IPC Medium Density)
footprint R-16_L (SOIC, 16-Leads, Body 9.9x3.9mm, Pitch 1.27mm, IPC High Density)
footprint R-16_M (SOIC, 16-Leads, Body 9.9x3.9mm, Pitch 1.27mm, IPC Low Density)
pins: 1 OUT1 (out), 2 OUT2, 3 GND (power), 4 DB7 (MSB) (in), 5 DB6 (in), 6 DB5 (in), 7 DB4 (in), 8 DB3 (in), 9 DB2 (in), 10 DB1 (in), 11 DB0 (LSB) (in), 12 ~{CS} (in), 13 ~{WR} (in), 14 VDD (power), 15 VREF (in), 16 RFEEDBACK (in)

## AD7524SR-EP-RL7
designator U?
Single 8-Bit Buffered Multiplying CMOS Digital-to-Analog Converter, -55 to +125 degC, R-16, Reel; Generic Part Number: AD7524; Manufacturer: Analog Devices; PartNumber: AD7524SR-EP-RL7; # DAC Outputs: 1; Max V+: 15V; Op Pwr Diss: 30mW; Resolution (Bits): 8; Settling Time: 250ns; Single Supply: Yes; DatasheetVersion: Rev.0; PackageVersion: 060606-A; PackageReference: R-16; PackageDescription: 16-Lead Standard Small Outline Package [SOIC_N] Narrow Body; Supplier 1: Digi-Key; Supplier Part Number 1: AD7524SR-EP-RL7-ND; Supplier 2: Mouser; Supplier Part Number 2: 584-AD7524SR-EP-R7; Packing: Reel; RoHS: N; Mounting Technology: Surface Mount; Code_JEDEC: MS-012-AC; ComponentLink1Description: Manufacturer URL; ComponentLink1URL: http://www.analog.com/en/index.html; ComponentLink2Description: Datasheet; ComponentLink2URL: http://www.analog.com/static/imported-files/data_sheets/AD7524-EP.pdf; ComponentLink3Description: Package Specification; ComponentLink3URL: http://www.analog.com/static/imported-files/packages/PKG_PDF/SOIC_Narrow%20(R)/R_16.pdf; ComponentLink4Description: Product URL; ComponentLink4URL: http://www.analog.com/en/digital-to-analog-converters/da-converters/ad7524/products/product.html
footprint R-16_N (SOIC, 16-Leads, Body 9.9x3.9mm, Pitch 1.27mm, IPC Medium Density)
footprint R-16_L (SOIC, 16-Leads, Body 9.9x3.9mm, Pitch 1.27mm, IPC High Density)
footprint R-16_M (SOIC, 16-Leads, Body 9.9x3.9mm, Pitch 1.27mm, IPC Low Density)
pins: 1 OUT1 (out), 2 OUT2, 3 GND (power), 4 DB7 (MSB) (in), 5 DB6 (in), 6 DB5 (in), 7 DB4 (in), 8 DB3 (in), 9 DB2 (in), 10 DB1 (in), 11 DB0 (LSB) (in), 12 ~{CS} (in), 13 ~{WR} (in), 14 VDD (power), 15 VREF (in), 16 RFEEDBACK (in)